# Altium footprint library STMM-105-XX-XX-D.PcbLib: 1 footprints
Each footprint in its own frame and in the unit in brackets; x right, y up, seen from the top. Pads: shape width x height; smd on the part's side, far side on the other; paste and mask are expansions set on the pad; w line width, h text height; cw(c..) or ccw(c..) is an arc to the next point about the centre after c.
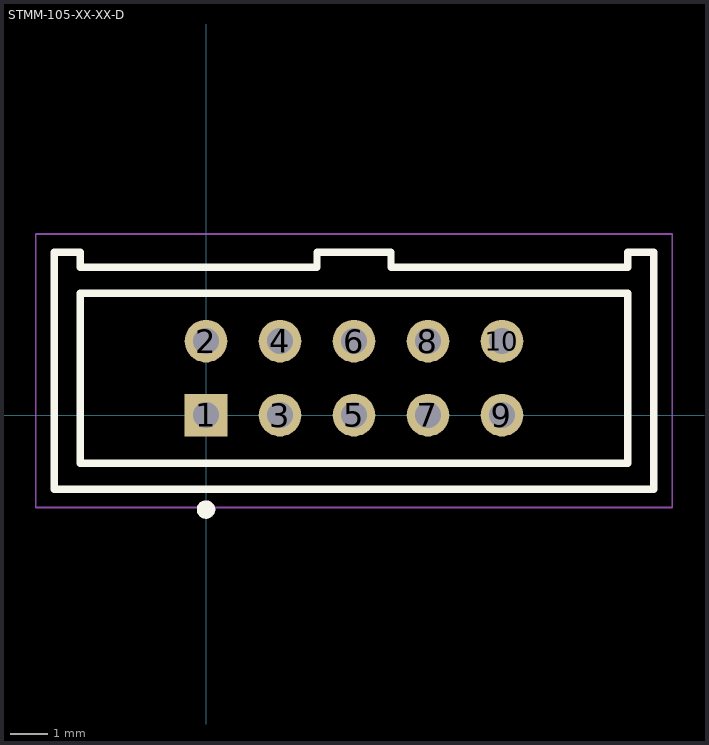
[diagram p0: the footprint, top view; thin cyan lines are the x and y axes]

## STMM-105-XX-XX-D [mm] "2.00mm pitch, 10 pin, header; shrouded"
height 4.8
pads (10):
  rect 1.15x1.15 / inner round 1.15 / far side rect 1.15x1.15 hole 0.7 mask+0: 1(0,0)
  round 1.15 hole 0.7 mask+0: 2(0,2) 3(2,0) 4(2,2) 5(4,0) 6(4,2) 7(6,0) 8(6,2) 9(8,0) 10(8,2)
Top Overlay:
  circle w0.25: c0,-2.55 r0.125
  lines w0.2: -4.1,-2 -4.1,4.4 -3.4,4.4 -3.4,4 3,4 3,4.4 5,4.4 5,4 11.4,4 11.4,4.4 12.1,4.4 12.1,-2 -4.1,-2 ; -3.4,-1.3 11.4,-1.3 11.4,3.3 -3.4,3.3 -3.4,-1.3
Mechanical 12:
  lines w0.001: -4.1,-2 -4.1,4.4 -3.4,4.4 -3.4,4 3,4 3,4.4 5,4.4 5,4 11.4,4 11.4,4.4 12.1,4.4 12.1,-2 -4.1,-2
Mechanical 13:
  lines w0.1: -4.1,-2 -4.1,4.4 -3.4,4.4 -3.4,4 3,4 3,4.4 5,4.4 5,4 11.4,4 11.4,4.4 12.1,4.4 12.1,-2 -4.1,-2 ; -3.4,-1.3 11.4,-1.3 11.4,3.3 -3.4,3.3 -3.4,-1.3
  text ".Designator" at 0,-0.127 h1.52
Mechanical 15:
  lines w0.05: -4.6,-2.5 12.6,-2.5 12.6,4.9 -4.6,4.9 -4.6,-2.5